# Altium schematic symbol library 主控.SCHLIB: 4 symbols
Pins are listed as number, name and electrical type; pins without a type are passive.

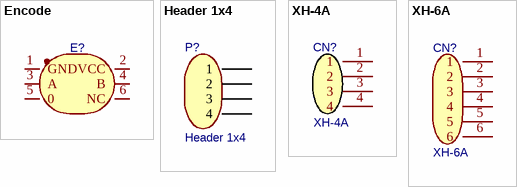
[diagram p0: symbols Encode to XH-6A]

## Encode
designator E?  (value not drawn)
Contributor: erhuoyan; spicePre: E
footprint Encoder
pins: 1 GND, 2 VCC, 3 A, 4 B, 5 0, 6 NC

## Header 1x4
designator P?
Contributor: erhuoyan; BOM_Supplier: LCSC; BOM_Supplier Part: C124378; spicePre: P
footprint DIP-1X4P-2.54MM-M
pins: 1, 2, 3, 4

## XH-4A
designator CN?
BOM_Manufacturer: BOOMELE; Contributor: erhuoyan; BOM_Supplier: LCSC; BOM_Manufacturer Part: XH-4A; image: //image.lceda.cn/szlcsc/C37815.jpg; BOM_Supplier Part: C37815; spicePre: C
footprint XH-4A
pins: 1, 2, 3, 4

## XH-6A
designator CN?
BOM_Manufacturer: BOOMELE; Contributor: erhuoyan; BOM_Supplier: LCSC; BOM_Manufacturer Part: XH-6A; image: //image.lceda.cn/szlcsc/C5663.jpg; BOM_Supplier Part: C5663; spicePre: C
footprint XH-TH_6PIN-V-PITCH2.50-R
pins: 1, 2, 3, 4, 5, 6